# EAGLE library part 6250XX22323_62505022323 (library Eagle_WR-BHD (rev21a))
WR-BHD 2.00 mm Board to Cable Transition Connector KIND PROPERTIES: Pitch 2 mm Gender:Transition MATERIAL PROPERTIES: Insulator Material:PBT Insulator Flammability Rating UL94 V-0 Insulator Color:Black Contact Material :Copper Alloy Contact Plating :Gold Contact Type: Stamped GENERAL INFORMATION: Operating Temperature:-40 °C up to +125 °C Compliance:RoHS Working Voltage: 250 V (AC) Withstanding Voltage:500 V (AC) Contact Resistance: 20 mΩ Insulation Resistance:1000 MΩ CERTIFICATION UL Approval：E323964 PACKAGING PROPERTIES Packaging :Tray <https://www.we-online.de/katalog/media/o32943v209%20Family_WR-BHD_6250xx22323.jpg> Details see: https://www.we-online.de/katalog/en/em/BHD_2_00_BOARD_TO_CAB_TRANSITION_CONNECTOR_6250XX22323 Updated by Yingchun,Shan 2019-11-04 2019 (C) Würth Elektronik
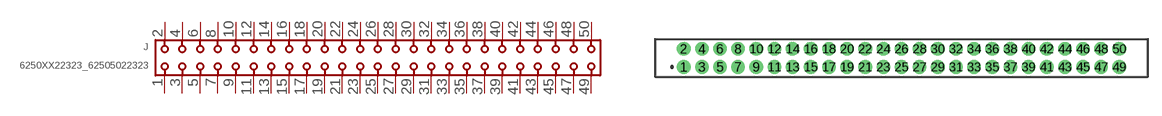
[diagram p162: symbol with the pads of 62505022323; footprint 62505022323]

Designator prefix J

## 6250XX22323_62505022323 (CONTACT-RESISTANCE: 20mOhm; DATASHEET-URL: https://www.we-online.com/catalog/datasheet/62505022323.pdf; GENDER: Transition; IR: 1A; L: 54.1mm; MOUNT: THT; PACKAGING: Tray; PART-NUMBER: 62505022323; PINS: 50; PITCH: 2mm; TYPE: Straight; VALUE: 62505022323; WORKING-VOLTAGE: 250V(AC))  [62505022323]
1  1  pas
2  2  pas
3  3  pas
4  4  pas
5  5  pas
6  6  pas
7  7  pas
8  8  pas
9  9  pas
10  10  pas
11  11  pas
12  12  pas
13  13  pas
14  14  pas
15  15  pas
16  16  pas
17  17  pas
18  18  pas
19  19  pas
20  20  pas
21  21  pas
22  22  pas
23  23  pas
24  24  pas
25  25  pas
26  26  pas
27  27  pas
28  28  pas
29  29  pas
30  30  pas
31  31  pas
32  32  pas
33  33  pas
34  34  pas
35  35  pas
36  36  pas
37  37  pas
38  38  pas
39  39  pas
40  40  pas
41  41  pas
42  42  pas
43  43  pas
44  44  pas
45  45  pas
46  46  pas
47  47  pas
48  48  pas
49  49  pas
50  50  pas

## Footprint 62505022323 (pad centres in mm)
WR-BHD -2.00 mm Board to Cable Transition Connector,50 pins
drill 1: 1 -24,-1; 2 -24,1; 3 -22,-1; 4 -22,1; 5 -20,-1; 6 -20,1; 7 -18,-1; 8 -18,1; 9 -16,-1; 10 -16,1; 11 -14,-1; 12 -14,1; 13 -12,-1; 14 -12,1; 15 -10,-1; 16 -10,1; 17 -8,-1; 18 -8,1; 19 -6,-1; 20 -6,1; 21 -4,-1; 22 -4,1; 23 -2,-1; 24 -2,1; 25 0,-1; 26 0,1; 27 2,-1; 28 2,1; 29 4,-1; 30 4,1; 31 6,-1; 32 6,1; 33 8,-1; 34 8,1; 35 10,-1; 36 10,1; 37 12,-1; 38 12,1; 39 14,-1; 40 14,1; 41 16,-1; 42 16,1; 43 18,-1; 44 18,1; 45 20,-1; 46 20,1; 47 22,-1; 48 22,1; 49 24,-1; 50 24,1